# Altium schematic symbol library Connectors.SchLib: 17 symbols
Pins are listed as number, name and electrical type; pins without a type are passive.

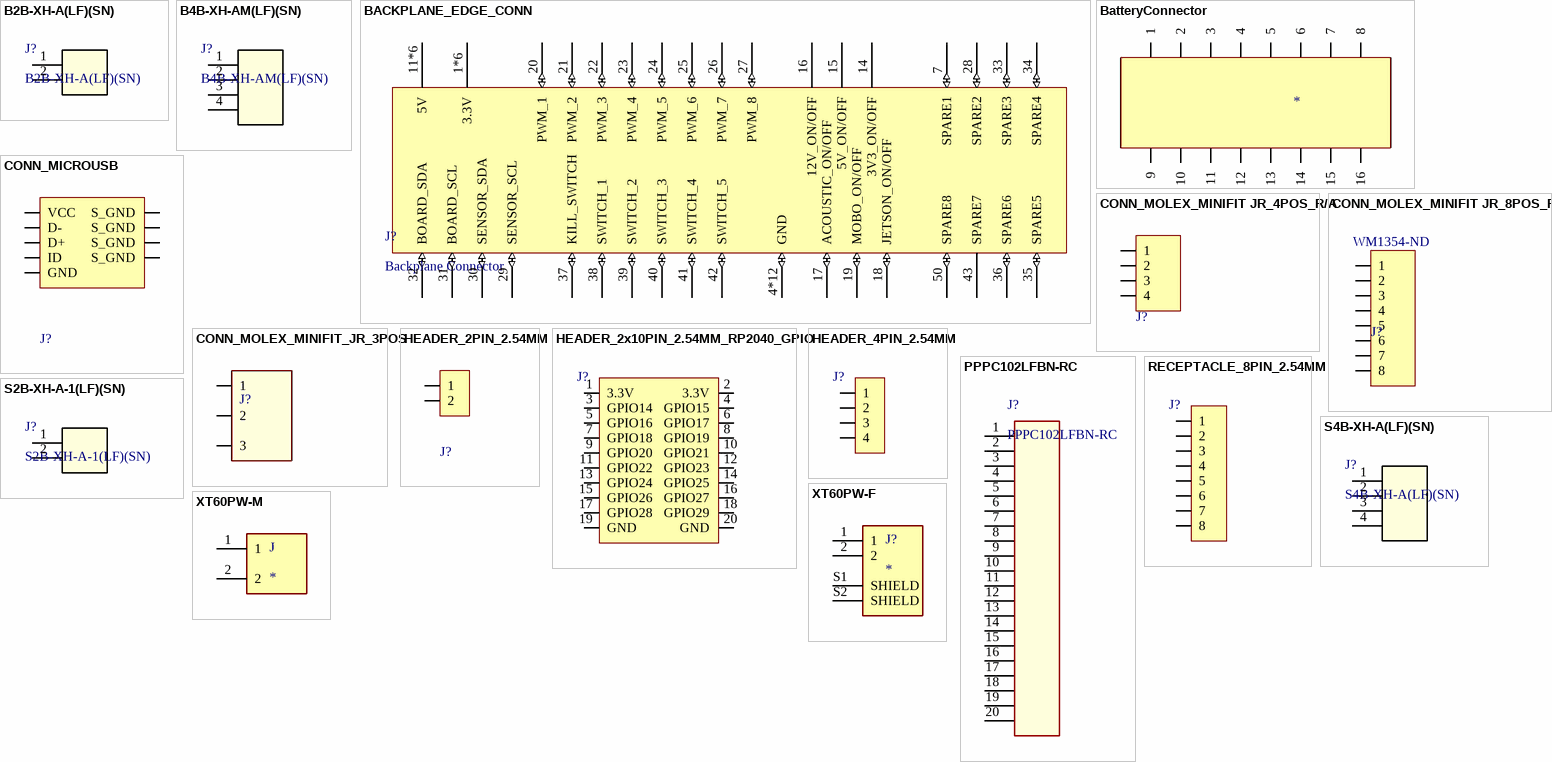
[diagram p0: symbols B2B-XH-A(LF)(SN) to XT60PW-M]

## B2B-XH-A(LF)(SN)
designator J?
CONN HEADER VERT 2POS 2.5MM; Vendor: JST; Built_By: EMA_Cory; SourceLibrary: JST_2019-12-02; Manufacturer_Part_Number: B2B-XH-A(LF)(SN); Copyright: Copyright (C) 2018 Accelerated Designs. All rights reserved; RefDes: RefDes; Type: DEV; Supplier 1: Digi-Key; Supplier Part Number 1: 455-2247-ND; Created By: Dylan Trainor; Verified By: *
footprint CONN_B2B-XH-A(LF)(SN)_JST
pins: 1, 2

## B4B-XH-AM(LF)(SN)
designator J?
Connector Header Through Hole 4 position 0.098" (2.50mm); Vendor: JST; SourceLibrary: Add_to_database_2020-12-30; Datasheet: http://www.jst-mfg.com/product/pdf/eng/eXH.pdf; Manufacturer_Part_Number: B4B-XH-AM(LF)(SN); Supplier 1: Digi-Key; Supplier Part Number 1: 455-2237-ND; Created By: Dylan Trainor; Verified By: *
footprint CONN_B4B-XH-AM_JST
pins: 1, 2, 3, 4

## BACKPLANE_EDGE_CONN
designator J?, comment Backplane Connector
Titan Backplane Edge Connector
footprint BACKPLANE_EDGE_CONN; pin to pad 1*6>1+2+3+54+55+56 4*12>4+5+6+8+9+10+47+48+49+51+52+53 11*6>11+12+13+44+45+46
footprint HEADER_2X28PIN_2.54MM; pin to pad 1*6>1+2+3+54+55+56 4*12>4+5+6+8+9+10+47+48+49+51+52+53 11*6>11+12+13+44+45+46
pins: 1*6 3.3V (power), 4*12 GND (io), 7 SPARE1 (io), 11*6 5V (power), 14 3V3_ON/OFF (power), 15 5V_ON/OFF (power), 16 12V_ON/OFF (power), 17 ACOUSTIC_ON/OFF (io), 18 JETSON_ON/OFF (io), 19 MOBO_ON/OFF (io), 20 PWM_1 (io), 21 PWM_2 (io), 22 PWM_3 (io), 23 PWM_4 (io), 24 PWM_5 (io), 25 PWM_6 (io), 26 PWM_7 (io), 27 PWM_8 (io), 28 SPARE2 (io), 29 SENSOR_SCL (io), 30 SENSOR_SDA (io), 31 BOARD_SCL (io), 32 BOARD_SDA (io), 33 SPARE3 (io), 34 SPARE4 (io), 35 SPARE5 (io), 36 SPARE6 (io), 37 KILL_SWITCH (io), 38 SWITCH_1 (io), 39 SWITCH_2 (io), 40 SWITCH_3 (io), 41 SWITCH_4 (io), 42 SWITCH_5 (io), 43 SPARE7 (power) "+3V3", 50 SPARE8 (io)

## BatteryConnector
designator *  (value not drawn)
footprint CONN_MOLEX_MINIFIT JR_16 POS_R/A - duplicate (Molex Minifit Jr 16 Pos R/A)
pins: 1, 2, 3, 4, 5, 6, 7, 8, 9, 10, 11, 12, 13, 14, 15, 16

## CONN_MICROUSB
designator J?, comment USB_MICRO R/A  (value not drawn)
Amphenol Micro USB-B / USB2.0 5 Pin Right Angle SMD; Pitch: 0.65mm; Current Per Pin: 1.8A; Number of Positions: 5; Manufacturer: Amphenol; Configuration: Right Angle; Color: Silver; Created By: Flip B; ComponentLink1Description: Datasheet; ComponentLink1URL: https://cdn.amphenol-icc.com/media/wysiwyg/files/documentation/datasheet/inputoutput/io_usb_micro.pdf?__cf_chl_jschl_tk__=05693735e19256298f6ef6ca2bb2e65c376a4f56-1625503833-0-Abitsb0-ufjOXJYs_S3J3r2iTn-nObalbmXUksF1VvO_h_WEmRdMlUD1I8-hmWSEVWzY1pirKnrPZWfgY3851qyBZe5ZvnNQePLGIzUgdEIQBVUyW36RsbYpDLEWxJ4horD-5gChFgobLYqwmG5aHl0E8lIn_twwPPrOxilK2gP0q9t_CNOs_u5fMqXvXUrlsOv8tIE2NRlu6NVP8qtkL2GjhlkeTUbDMF8WvvpPDTFOgvZ4Y16Ej8F8AhWos88mo5B1HssXozw0XrkJQIqERITUu6rqloz9kf4ZzhBHtDAt-IkiAFY_Ds9SW8FYKKTtINJVpHZQ6Gyu1FFM4Dc9MO0maE8_mmNcwlxqyRoRk_MPWW8VyByXWM5RSp52jteRKw7FeI9WIYvCbPAOy0Eyib-aseIQsnGbglBcUY6_2xp8GYaJM38H3dNvBPsSOfJBPndKedwKHllxjkucXn6xsN0sDXkpGN-cu8_2bDTJ0g-uUucKSCooYX-ApSDNGpkA_p9zv1SOAD8c0zaZVmtiBsN75QpVz2rzq9_BFxOywPvR; Series: 10118192; Supplier 1: Digi-Key; Supplier Part Number 1: 609-4613-1-ND
footprint CONN_MINIUSB (USB2.0 Micro-B Receptacle SMD R/A)
pins: 1 VCC, 2 D-, 3 D+, 4 ID, 5 GND, 6 S_GND, 7 S_GND, 8 S_GND, 9 S_GND

## CONN_MOLEX_MINIFIT JR_4POS_R/A
designator J?, comment 4 POS R/A  (value not drawn)
Molex Minifit Jr. 5569 / 4 Pos R/A Natural; Pitch: 4.2mm; Configuration: Right Angle; Current Per Pin: 13A; Number of Positions: 4; Supplier Part Number 1: WM13112-ND; Supplier 1: Digi-Key; Manufacturer: Molex; Color: Natural; Created By: Flip B; ComponentLink1Description: Datasheet; ComponentLink1URL: https://www.molex.com/pdm_docs/sd/026013115_sd.pdf; Series: Minifit Jr 5569
footprint CONN_MOLEX_MINIFIT JR_4 POS_R/A (Molex Minifit Jr 5569 4 Pos R/A)
pins: 1, 2, 3, 4

## CONN_MOLEX_MINIFIT JR_8POS_R/A
designator J?, comment Supplier Part Number 1: WM1354-ND  (hidden comment: 8 POS R/A)
Molex Minifit Jr. 5569 / 8 Pos R/A Natural; Pitch: 4.2mm; Configuration: Right Angle; Current Per Pin: 13A; Number of Positions: 8; Manufacturer: Molex; Color: Natural; Created By: Flip B; ComponentLink1Description: Datasheet; ComponentLink1URL: https://www.molex.com/pdm_docs/ps/PS-5556-001.pdf; Series: Minifit Jr 5569; Supplier 1: Digi-Key
footprint CONN_MOLEX_MINIFIT JR_8 POS_R/A (Molex Minifit Jr 5569 8 Pos R/A)
pins: 1, 2, 3, 4, 5, 6, 7, 8

## CONN_MOLEX_MINIFIT_JR_3POS
designator J?  (value not drawn)
Connector Header Through Hole, Right Angle 3 position 0.165" (4.20mm)
footprint HEADER_3PIN_4.2MM (CONN HEADER R/A 3POS 4.2MM)
pins: 1, 2, 3

## HEADER_2PIN_2.54MM
designator J?, comment 2 POS  (value not drawn)
CONN HEADER VERT 2POS 2.54MM; Configuration: Vertical; Current Per Pin: 1A; Number of Positions: 2; Manufacturer: *; Pitch: 2.54mm; Color: Natural; Created By: Robert P; ComponentLink1Description: Datasheet; ComponentLink1URL: https://www.molex.com/pdm_docs/sd/026013115_sd.pdf; Series: *; Supplier 1: Digi-Key; Supplier Part Number 1: A121480-ND; Supplier 2: Mouser; Supplier Part Number 2: 571-5-146280-2
footprint HEADER_2PIN_2.54MM
pins: 1, 2

## HEADER_2x10PIN_2.54MM_RP2040_GPIO
designator J?, comment RP2040 GPIO Header  (value not drawn)
CONN HEADER VERT 20POS 2.54MM; Made By: Robert Pafford; Supplier 1: Digi-Key; Supplier Part Number 1: Z8747-ND
footprint HEADER_2x10PIN_2.54MM
footprint HEADER_MIRRORED_2x10PIN_2.54MM
pins: 1 3.3V (power), 2 3.3V (power), 3 GPIO14 (io), 4 GPIO15 (io), 5 GPIO16 (io), 6 GPIO17 (io), 7 GPIO18 (io), 8 GPIO19 (io), 9 GPIO20 (io), 10 GPIO21 (io), 11 GPIO22 (io), 12 GPIO23 (io), 13 GPIO24 (io), 14 GPIO25 (io), 15 GPIO26 (io), 16 GPIO27 (io), 17 GPIO28 (io), 18 GPIO29 (io), 19 GND (power), 20 GND (power)

## HEADER_4PIN_2.54MM
designator J?, comment CONN HEADER VERT 4POS 2.54MM  (value not drawn)
Made By: Robert Pafford; Supplier 1: Digi-Key; Supplier Part Number 1: S1012E-04-ND
footprint HEADER_4PIN_2.54MM
footprint HEADER_MIRRORED_4PIN_2.54MM
pins: 1, 2, 3, 4

## PPPC102LFBN-RC
designator J?
20 Position Header Connector 0.100" (2.54mm) Through Hole Gold; Vendor: Sullins; Configuration: Vertical; Current Per Pin: 3A; Number of Positions: 20; Manufacturer: Sullins; Supplier 1: Digi-Key; Supplier Part Number 1: S6106-ND; Pitch: 2.54mm; Color: Black; Created By: Dylan T; Series: PPPC102
footprint CONN_PPPC102LFBN-RC_SUL
pins: 1, 2, 3, 4, 5, 6, 7, 8, 9, 10, 11, 12, 13, 14, 15, 16, 17, 18, 19, 20

## RECEPTACLE_8PIN_2.54MM
designator J?, comment CONN RCPT 8POS 0.1 GOLD PCB  (value not drawn)
Made By: Robert Pafford; Supplier 1: Mouser; Supplier Part Number 1: 571-5-534237-6
footprint HEADER_8PIN_2.54MM
pins: 1, 2, 3, 4, 5, 6, 7, 8

## S2B-XH-A-1(LF)(SN)
designator J?
Connector Header Through Hole, Right Angle 2 position 0.098" (2.50mm); Vendor: JST; SourceLibrary: JST_2019-12-02; Manufacturer_Part_Number: S2B-XH-A-1(LF)(SN); Supplier 1: Digi-Key; Supplier Part Number 1: 455-4226-ND; Created By: Dylan Trainor; Verified By: *
footprint CONN_S2B-XH-A-1(LF)(SN)_JST
pins: 1, 2

## S4B-XH-A(LF)(SN)
designator J?
CONN HEADER R/A 4POS 2.5MM; Vendor: JST; SourceLibrary: JST_2019-12-02; Manufacturer_Part_Number: S4B-XH-A(LF)(SN); Supplier 1: Digi-Key; Supplier Part Number 1: 455-2243-ND; Created By: Dylan Trainor; Verified By: *
footprint CONN_S4B-XH-A(LF)(SN)_JST
pins: 1, 2, 3, 4

## XT60PW-F
designator J?
XT60 Socket DC Supply Connector Female (30-45 A); MP: XT60PW-F; MF: AMASS; Availability: Unavailable; SnapEDA_Link: https://www.snapeda.com/parts/XT60PW-F/AMASS/view-part/2890674/?ref=snap; Value: *; Price: None; Package: Package
footprint XT60PW_AMASS_F (XT60_AMASS_F)
pins: 1, 2, S1 SHIELD, S2 SHIELD

## XT60PW-M
designator J
XT60 60A Right Angle Male (30-45A MAX); MP: XT60PW-M; MF: AMASS; SnapEDA_Link: https://www.snapeda.com/parts/XT60PW-M%20/AMASS/view-part/3075559/?ref=snap; Availability: Unavailable; Price: None; Value: *; Package: Package Analog Devices
footprint XT60_PW_AMASS_M (XT60 60A RIGHT ANGLE MALE)
pins: 1, 2